# EAGLE library part MAX16054 (library openmotestm)
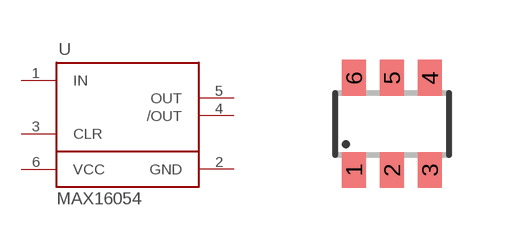
[diagram p15: symbol with the pads of SOT23-6; footprint SOT23-6]

Designator prefix -

## MAX16054  [SOT23-6]
1  IN
2  GND
3  CLR
4  /OUT
5  OUT
6  VCC

## Footprint SOT23-6 (pad centres in mm)
Small Outline Transistor 6 lead
smd 0.6 x 0.9: 1 -0.95,-1.15; 2 0,-1.15; 3 0.95,-1.15; 4 0.95,1.15; 5 0,1.15; 6 -0.95,1.15